# Altium footprint library MF-S350.PcbLib: 1 footprints
Each footprint in its own frame and in the unit in brackets; x right, y up, seen from the top. Pads: shape width x height; smd on the part's side, far side on the other; paste and mask are expansions set on the pad; w line width, h text height; cw(c..) or ccw(c..) is an arc to the next point about the centre after c.
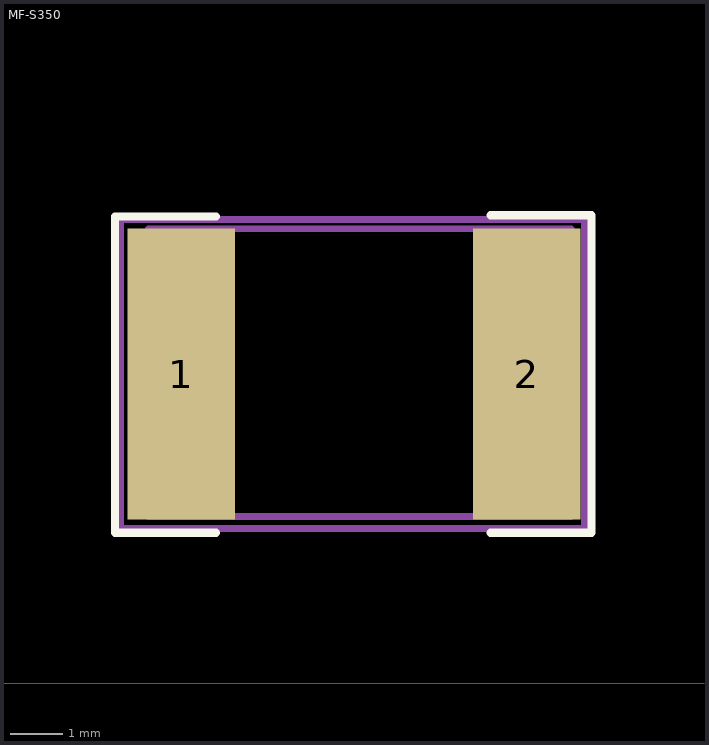
[diagram p0: the footprint, top view; thin cyan lines are the x and y axes]

## MF-S350 [mil]
pads (2):
  rect 80x216.53 smd: 1(200,230) 2(456.89,230)
Top Overlay:
  lines w6: 225.79,111.89 150.79,111.89 150.79,347.13 225.79,347.13 ; 430.12,111.89 505.12,111.89 505.12,348.11 430.12,348.11
Mechanical 13:
  lines w5: 175.63,123.92 175.63,338.09 489.8,338.09 489.8,123.92 175.63,123.92
Mechanical 15:
  lines w5: 155,115 155,345 500,345 500,115 155,115
Mechanical 17:
  text "'.Designator'" at 170,135 h15
Mechanical 19:
  text "'.Comment'" at 170,135 h15
3D body "User Library-Fuse2920.step": height 15.24, standoff -16.26, extent 175.63,123.92 489.8,338.09